# EAGLE library part ER-CON0.4-24 (library ER-CON0.4-24P)
ER-CON0.4-24 connector
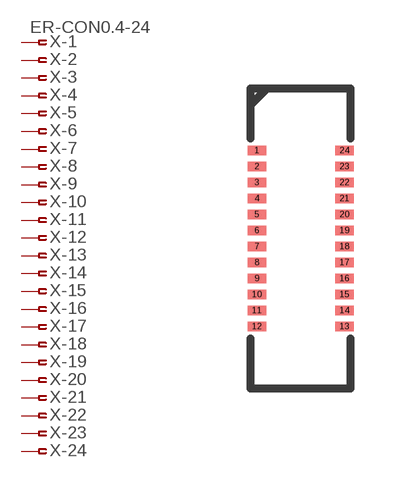
[diagram p0: symbol with the pads of OK-24F024-04; footprint OK-24F024-04]

Designator prefix X; gates -1=PIN-FV -2=PIN-F -3=PIN-F -4=PIN-F -5=PIN-F -6=PIN-F -7=PIN-F -8=PIN-F -9=PIN-F -10=PIN-F -11=PIN-F -12=PIN-F -13=PIN-F -14=PIN-F -15=PIN-F -16=PIN-F -17=PIN-F -18=PIN-F -19=PIN-F -20=PIN-F -21=PIN-F -22=PIN-F -23=PIN-F -24=PIN-F

## ER-CON0.4-24  [OK-24F024-04]
1  -1:1  pas
2  -2:1  pas
3  -3:1  pas
4  -4:1  pas
5  -5:1  pas
6  -6:1  pas
7  -7:1  pas
8  -8:1  pas
9  -9:1  pas
10  -10:1  pas
11  -11:1  pas
12  -12:1  pas
13  -13:1  pas
14  -14:1  pas
15  -15:1  pas
16  -16:1  pas
17  -17:1  pas
18  -18:1  pas
19  -19:1  pas
20  -20:1  pas
21  -21:1  pas
22  -22:1  pas
23  -23:1  pas
24  -24:1  pas

## Footprint OK-24F024-04 (pad centres in mm)
OK-24F024-04
smd 0.47 x 0.23: 1 -1.095,2.2; 2 -1.095,1.8; 3 -1.095,1.4; 4 -1.095,1; 5 -1.095,0.6; 6 -1.095,0.2; 7 -1.095,-0.2; 8 -1.095,-0.6; 9 -1.095,-1; 10 -1.095,-1.4; 11 -1.095,-1.8; 12 -1.095,-2.2; 13 1.095,-2.2; 14 1.095,-1.8; 15 1.095,-1.4; 16 1.095,-1; 17 1.095,-0.6; 18 1.095,-0.2; 19 1.095,0.2; 20 1.095,0.6; 21 1.095,1; 22 1.095,1.4; 23 1.095,1.8; 24 1.095,2.2